# Altium schematic symbol library uni_Library.SchLib: 8 symbols
Pins are listed as number, name and electrical type; pins without a type are passive.

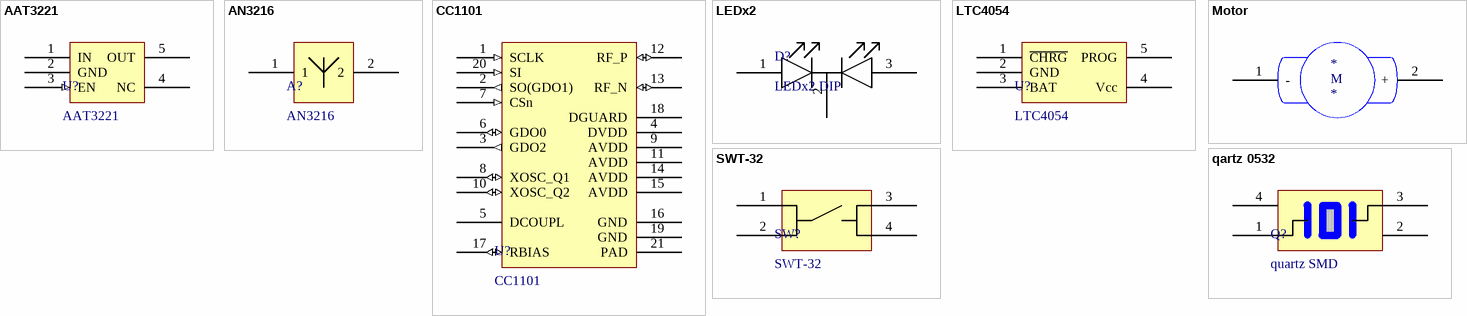
[diagram p0: symbols AAT3221 to SWT-32]

## AAT3221
designator U?
PowerLinear NanoPower low   dropout (LDO) linear regulator.
footprint SOT95P280X145-5N (SOT23, 5-Leads, Body 3,0x3,0mm (max), Pitch 0,95mm, IPC Medium Density)
pins: 1 IN (power), 2 GND (power), 3 EN (in), 4 NC, 5 OUT (power)

## AN3216
designator A?
AN3216 Multilayer Chip Antenna
footprint Chip Antenna (Multilayer Chip Antenna 2-Leads, Body 3,2x1,6mm, IPC Medium Density)
pins: 1, 2

## CC1101
designator U?
Low-Power Sub-1 GHz RF Transceiver
footprint QFN50P397X397X80-20N (QFN, 20-Leads, Body 4,1x4,1mm (max), Pitch 0,50mm, IPC Medium Density)
pins: 1 SCLK (in), 2 SO(GDO1) (out), 3 GDO2 (out), 4 DVDD (power), 5 DCOUPL (power), 6 GDO0 (io), 7 CSn (in), 8 XOSC_Q1 (io), 9 AVDD (power), 10 XOSC_Q2 (io), 11 AVDD (power), 12 RF_P (io), 13 RF_N (io), 14 AVDD (power), 15 AVDD (power), 16 GND (power), 17 RBIAS (io), 18 DGUARD (power), 19 GND (power), 20 SI (in), 21 PAD (power)

## LEDx2
designator D?, comment LEDx2 DIP
in DIP
footprint LEDx2
pins: 1 G, 2 GND, 3 R

## LTC4054
designator U?
Standalone Linear  Li-Ion Battery Charger with  Thermal Regulation in ThinSOT
footprint SOT95P270X100-5N (SOT23, 5-Leads, Body 2,9x2,8mm (max), Pitch 0,95mm, IPC Medium Density)
pins: 1 ~{CHRG}, 2 GND, 3 BAT, 4 Vcc, 5 PROG

## Motor
designator *
footprint Motor (площадка под вибромотор)
pins: 1 -, 2 +
text: M

## qartz 0532
designator Q?, comment quartz SMD
в корпусе 0532
footprint quartz_pattern (LCC, 4-Pins, Body 5,0x3,2mm (max), Pitch 2,30mm, IPC Medium Density)
pins: 1, 2, 3, 4

## SWT-32
designator SW?
Кнопка тактовая, поверхностный монтаж
footprint SWT-32 pattern (SOP, 4-Leads, Body 6,2x6,2mm (max), Pitch 4,50mm, IPC Medium Density)
pins: 1, 2, 3, 4